# EAGLE library part SODIMM-DDR2 (library pimoroni)
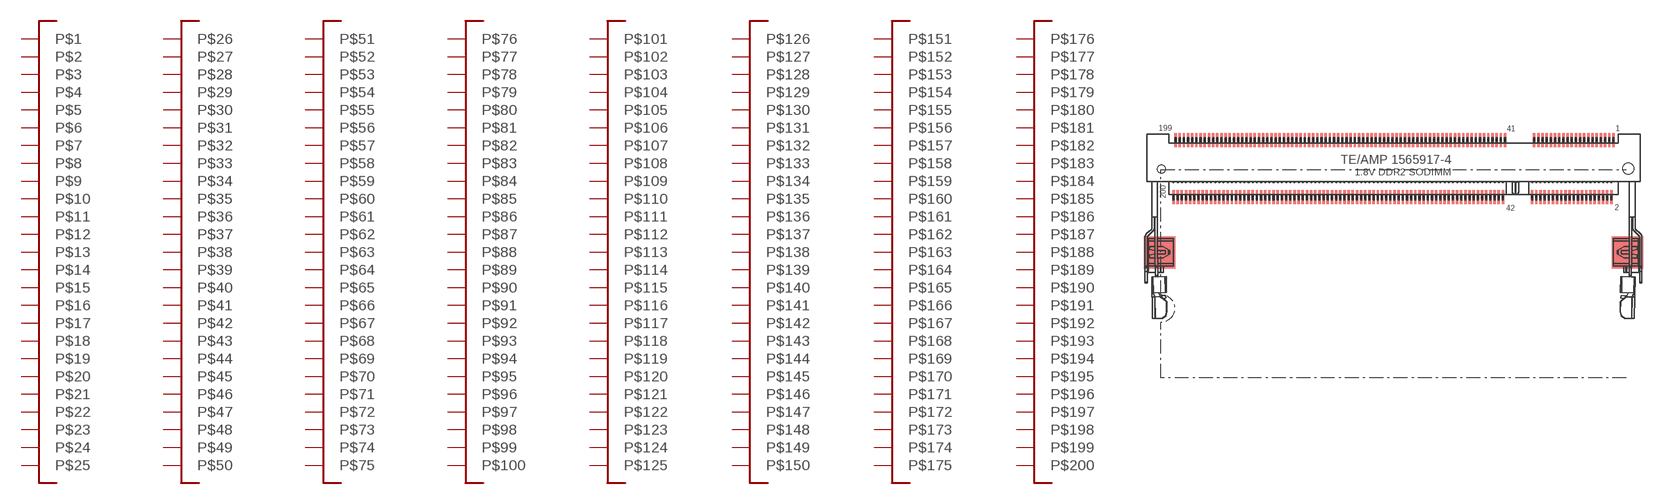
[diagram p30: symbol with the pads of DDR-SODIMM; footprint DDR-SODIMM]

Designator prefix -

## SODIMM-DDR2  [DDR-SODIMM]
1  P$1
2  P$2
3  P$3
4  P$4
5  P$5
6  P$6
7  P$7
8  P$8
9  P$9
10  P$10
11  P$11
12  P$12
13  P$13
14  P$14
15  P$15
16  P$16
17  P$17
18  P$18
19  P$19
20  P$20
21  P$21
22  P$22
23  P$23
24  P$24
25  P$25
26  P$26
27  P$27
28  P$28
29  P$29
30  P$30
31  P$31
32  P$32
33  P$33
34  P$34
35  P$35
36  P$36
37  P$37
38  P$38
39  P$39
40  P$40
41  P$41
42  P$42
43  P$43
44  P$44
45  P$45
46  P$46
47  P$47
48  P$48
49  P$49
50  P$50
51  P$51
52  P$52
53  P$53
54  P$54
55  P$55
56  P$56
57  P$57
58  P$58
59  P$59
60  P$60
61  P$61
62  P$62
63  P$63
64  P$64
65  P$65
66  P$66
67  P$67
68  P$68
69  P$69
70  P$70
71  P$71
72  P$72
73  P$73
74  P$74
75  P$75
76  P$76
77  P$77
78  P$78
79  P$79
80  P$80
81  P$81
82  P$82
83  P$83
84  P$84
85  P$85
86  P$86
87  P$87
88  P$88
89  P$89
90  P$90
91  P$91
92  P$92
93  P$93
94  P$94
95  P$95
96  P$96
97  P$97
98  P$98
99  P$99
100  P$100
101  P$101
102  P$102
103  P$103
104  P$104
105  P$105
106  P$106
107  P$107
108  P$108
109  P$109
110  P$110
111  P$111
112  P$112
113  P$113
114  P$114
115  P$115
116  P$116
117  P$117
118  P$118
119  P$119
120  P$120
121  P$121
122  P$122
123  P$123
124  P$124
125  P$125
126  P$126
127  P$127
128  P$128
129  P$129
130  P$130
131  P$131
132  P$132
133  P$133
134  P$134
135  P$135
136  P$136
137  P$137
138  P$138
139  P$139
140  P$140
141  P$141
142  P$142
143  P$143
144  P$144
145  P$145
146  P$146
147  P$147
148  P$148
149  P$149
150  P$150
151  P$151
152  P$152
153  P$153
154  P$154
155  P$155
156  P$156
157  P$157
158  P$158
159  P$159
160  P$160
161  P$161
162  P$162
163  P$163
164  P$164
165  P$165
166  P$166
167  P$167
168  P$168
169  P$169
170  P$170
171  P$171
172  P$172
173  P$173
174  P$174
175  P$175
176  P$176
177  P$177
178  P$178
179  P$179
180  P$180
181  P$181
182  P$182
183  P$183
184  P$184
185  P$185
186  P$186
187  P$187
188  P$188
189  P$189
190  P$190
191  P$191
192  P$192
193  P$193
194  P$194
195  P$195
196  P$196
197  P$197
198  P$198
199  P$199
200  P$200

## Footprint DDR-SODIMM (pad centres in mm)
smd 0.35 x 2: 1 33.323,18.725; 2 33.023,10.525; 3 32.723,18.725; 4 32.423,10.525; 5 32.123,18.725; 6 31.823,10.525; 7 31.523,18.725; 8 31.223,10.525; 9 30.923,18.725; 10 30.623,10.525; 11 30.323,18.725; 12 30.023,10.525; 13 29.723,18.725; 14 29.423,10.525; 15 29.123,18.725; 16 28.823,10.525; 17 28.523,18.725; 18 28.223,10.525; 19 27.923,18.725; 20 27.623,10.525; 21 27.323,18.725; 22 27.023,10.525; 23 26.723,18.725; 24 26.423,10.525; 25 26.123,18.725; 26 25.823,10.525; 27 25.523,18.725; 28 25.223,10.525; 29 24.923,18.725; 30 24.623,10.525; 31 24.323,18.725; 32 24.023,10.525; 33 23.723,18.725; 34 23.423,10.525; 35 23.123,18.725; 36 22.823,10.525; 37 22.523,18.725; 38 22.223,10.525; 39 21.923,18.725; 40 21.623,10.525; 41 17.723,18.725; 42 17.423,10.525; 43 17.123,18.725; 44 16.823,10.525; 45 16.523,18.725; 46 16.223,10.525; 47 15.923,18.725; 48 15.623,10.525; 49 15.323,18.725; 50 15.023,10.525; 51 14.723,18.725; 52 14.423,10.525; 53 14.123,18.725; 54 13.823,10.525; 55 13.523,18.725; 56 13.223,10.525; 57 12.923,18.725; 58 12.623,10.525; 59 12.323,18.725; 60 12.023,10.525; 61 11.723,18.725; 62 11.423,10.525; 63 11.123,18.725; 64 10.823,10.525; 65 10.523,18.725; 66 10.223,10.525; 67 9.923,18.725; 68 9.623,10.525; 69 9.323,18.725; 70 9.023,10.525; 71 8.723,18.725; 72 8.423,10.525; 73 8.123,18.725; 74 7.823,10.525; 75 7.523,18.725; 76 7.223,10.525; 77 6.923,18.725; 78 6.623,10.525; 79 6.323,18.725; 80 6.023,10.525; 81 5.723,18.725; 82 5.423,10.525; 83 5.123,18.725; 84 4.823,10.525; 85 4.523,18.725; 86 4.223,10.525; 87 3.923,18.725; 88 3.623,10.525; 89 3.323,18.725; 90 3.023,10.525; 91 2.723,18.725; 92 2.423,10.525; 93 2.123,18.725; 94 1.823,10.525; 95 1.523,18.725; 96 1.223,10.525; 97 0.923,18.725; 98 0.623,10.525; 99 0.323,18.725; 100 0.023,10.525; 101 -0.277,18.725; 102 -0.577,10.525; 103 -0.877,18.725; 104 -1.177,10.525; 105 -1.477,18.725; 106 -1.777,10.525; 107 -2.077,18.725; 108 -2.377,10.525; 109 -2.677,18.725; 110 -2.977,10.525; 111 -3.277,18.725; 112 -3.577,10.525; 113 -3.877,18.725; 114 -4.177,10.525; 115 -4.477,18.725; 116 -4.777,10.525; 117 -5.077,18.725; 118 -5.377,10.525; 119 -5.677,18.725; 120 -5.977,10.525; 121 -6.277,18.725; 122 -6.577,10.525; 123 -6.877,18.725; 124 -7.177,10.525; 125 -7.477,18.725; 126 -7.777,10.525; 127 -8.077,18.725; 128 -8.377,10.525; 129 -8.677,18.725; 130 -8.977,10.525; 131 -9.277,18.725; 132 -9.577,10.525; 133 -9.877,18.725; 134 -10.177,10.525; 135 -10.477,18.725; 136 -10.777,10.525; 137 -11.077,18.725; 138 -11.377,10.525; 139 -11.677,18.725; 140 -11.977,10.525; 141 -12.277,18.725; 142 -12.577,10.525; 143 -12.877,18.725; 144 -13.177,10.525; 145 -13.477,18.725; 146 -13.777,10.525; 147 -14.077,18.725; 148 -14.377,10.525; 149 -14.677,18.725; 150 -14.977,10.525; 151 -15.277,18.725; 152 -15.577,10.525; 153 -15.877,18.725; 154 -16.177,10.525; 155 -16.477,18.725; 156 -16.777,10.525; 157 -17.077,18.725; 158 -17.377,10.525; 159 -17.677,18.725; 160 -17.977,10.525; 161 -18.277,18.725; 162 -18.577,10.525; 163 -18.877,18.725; 164 -19.177,10.525; 165 -19.477,18.725; 166 -19.777,10.525; 167 -20.077,18.725; 168 -20.377,10.525; 169 -20.677,18.725; 170 -20.977,10.525; 171 -21.277,18.725; 172 -21.577,10.525; 173 -21.877,18.725; 174 -22.177,10.525; 175 -22.477,18.725; 176 -22.777,10.525; 177 -23.077,18.725; 178 -23.377,10.525; 179 -23.677,18.725; 180 -23.977,10.525; 181 -24.277,18.725; 182 -24.577,10.525; 183 -24.877,18.725; 184 -25.177,10.525; 185 -25.477,18.725; 186 -25.777,10.525; 187 -26.077,18.725; 188 -26.377,10.525; 189 -26.677,18.725; 190 -26.977,10.525; 191 -27.277,18.725; 192 -27.577,10.525; 193 -27.877,18.725; 194 -28.177,10.525; 195 -28.477,18.725; 196 -28.777,10.525; 197 -29.077,18.725; 198 -29.377,10.525; 199 -29.677,18.725; 200 -29.977,10.525
hole 1.6 at 35.473,14.635
hole 1.1 at -31.707,14.555